# Altium schematic symbol library ESP32-PicoDK.SCHLIB: 34 symbols
Pins are listed as number, name and electrical type; pins without a type are passive.

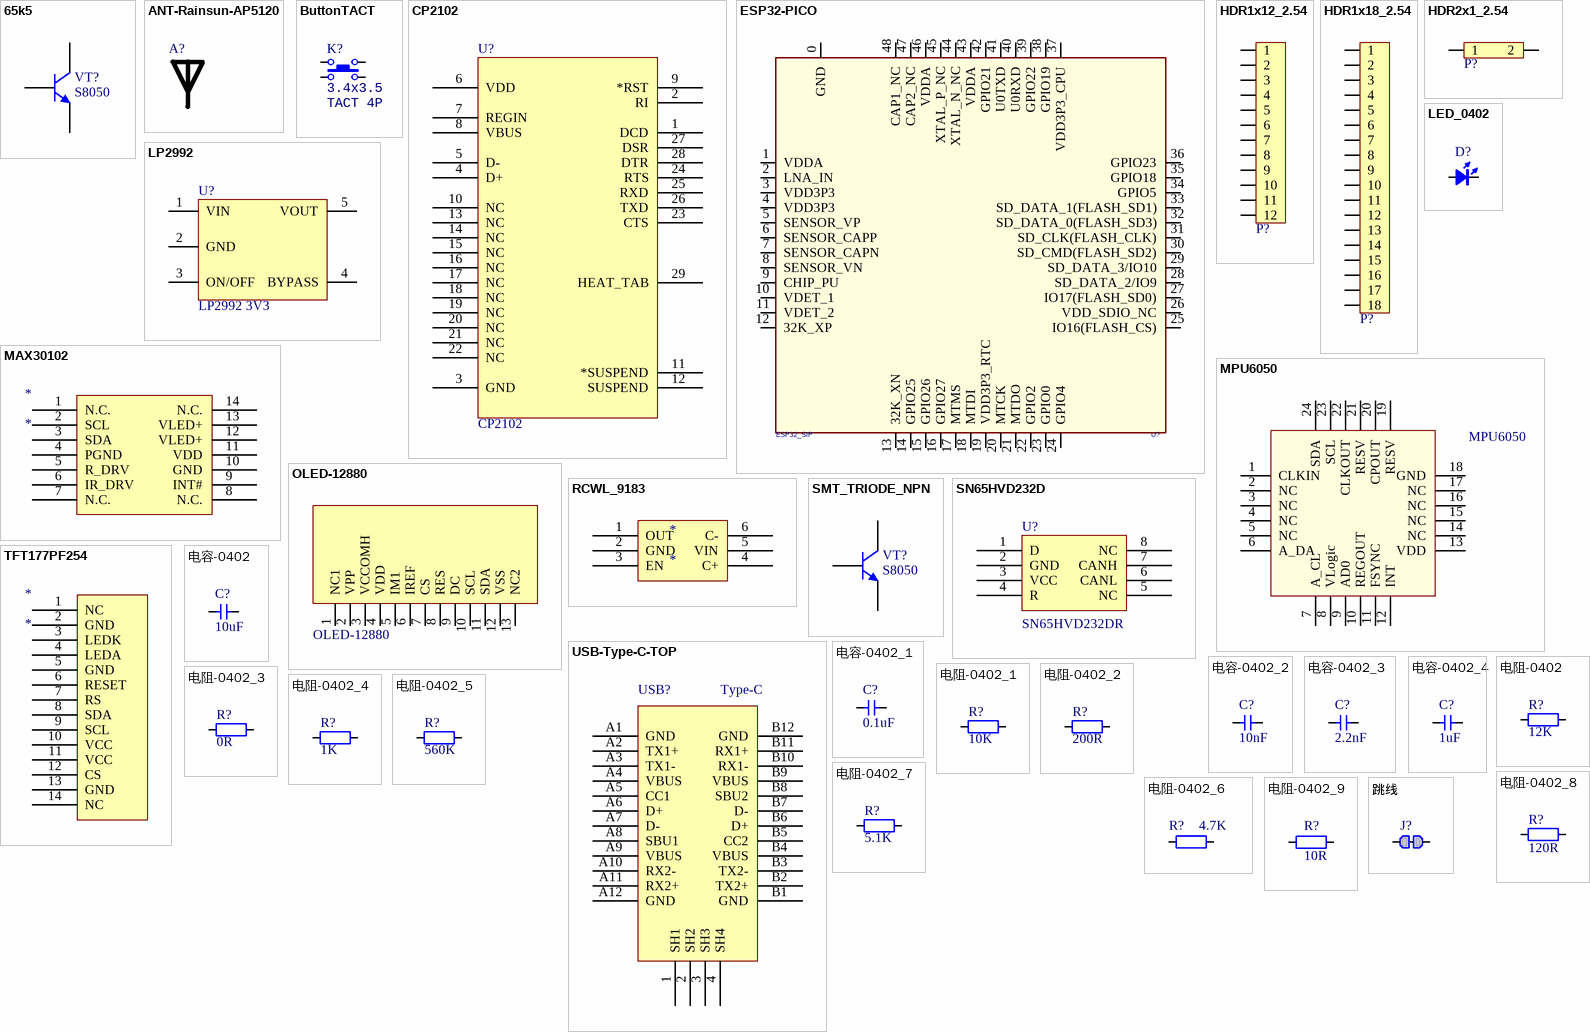
[diagram p0: symbols 65k5 to 跳线]

## 65k5
designator VT?, comment S8050
Surface mount NPN transistor, package SOT-23
footprint SMT_TRIODE_NPN (Surface mount NPN transistor, package SOT-23)
pins: 1 B, 2 E, 3 C

## ANT-Rainsun-AP5120
designator A?, comment RAINSUN  (value not drawn)
footprint ANT-Rainsun-AN5120 (选择焊盘)
pins: 1

## ButtonTACT
designator K?, comment value 3.4x3.5  (hidden comment: TACT 4P)
Button; type: TACT 4P
footprint ButtonTACT_3.5*3.55_90
footprint ButtonTACT_3.4*3.5_90
footprint SW-SMD_4P-L4.2-W3.3-P2.15-LS5.1 - duplicate
pins: 1, 2, 3, 4

## CP2102
designator U?
USB转TTL; PART DESC: SINGLE-CHIP USB TO UART BRIDGE, QFN28, RoHS.; MFG #1: SILICON LABS; PART NUMBER: CP2102; Value: Value; RefDes: RefDes; Type: DEV
footprint QFN-28
pins: 1 DCD, 2 RI, 3 GND, 4 D+, 5 D-, 6 VDD, 7 REGIN, 8 VBUS, 9 *RST, 10 NC, 11 *SUSPEND, 12 SUSPEND, 13 NC, 14 NC, 15 NC, 16 NC, 17 NC, 18 NC, 19 NC, 20 NC, 21 NC, 22 NC, 23 CTS, 24 RTS, 25 RXD, 26 TXD, 27 DSR, 28 DTR, 29 HEAT_TAB

## ESP32-PICO
designator U?, comment ESP32_SIP
footprint QFN-48_7X7
pins: 0 GND (power), 1 VDDA (power), 2 LNA_IN, 3 VDD3P3 (power), 4 VDD3P3 (power), 5 SENSOR_VP, 6 SENSOR_CAPP, 7 SENSOR_CAPN, 8 SENSOR_VN, 9 CHIP_PU, 10 VDET_1, 11 VDET_2, 12 32K_XP, 13 32K_XN, 14 GPIO25, 15 GPIO26, 16 GPIO27, 17 MTMS, 18 MTDI, 19 VDD3P3_RTC (power), 20 MTCK, 21 MTDO, 22 GPIO2, 23 GPIO0, 24 GPIO4, 25 IO16(FLASH_CS), 26 VDD_SDIO_NC, 27 IO17(FLASH_SD0), 28 SD_DATA_2/IO9, 29 SD_DATA_3/IO10, 30 SD_CMD(FLASH_SD2), 31 SD_CLK(FLASH_CLK), 32 SD_DATA_0(FLASH_SD3), 33 SD_DATA_1(FLASH_SD1), 34 GPIO5, 35 GPIO18, 36 GPIO23, 37 VDD3P3_CPU (power), 38 GPIO19, 39 GPIO22, 40 U0RXD (power), 41 U0TXD (power), 42 GPIO21, 43 VDDA (power), 44 XTAL_N_NC, 45 XTAL_P_NC, 46 VDDA (power), 47 CAP2_NC, 48 CAP1_NC

## HDR1x12_2.54
designator P?  (value not drawn)
Header
footprint HDR1X12_2.54_90
footprint HDR1X12_2.54_90F (Footprint not found)
footprint HDR1X12_2.54_180
footprint HDR1X12_2.54_180F (Footprint not found)
footprint HDR1X12_2.54_180H
pins: 1, 2, 3, 4, 5, 6, 7, 8, 9, 10, 11, 12

## HDR1x18_2.54
designator P?  (value not drawn)
Header
footprint HDR1X18_2.54_90 (Footprint not found)
footprint HDR1X18_2.54_90F (Footprint not found)
footprint HDR1X18_2.54_180
footprint HDR1X18_2.54_180F (Footprint not found)
pins: 1, 2, 3, 4, 5, 6, 7, 8, 9, 10, 11, 12, 13, 14, 15, 16, 17, 18

## HDR2x1_2.54
designator P?  (value not drawn)
Header
footprint HDR1X2_2.54_90
footprint HDR1X2_2.54_90F
footprint HDR1X2_2.54_180
footprint HDR1X2_2.54_180F
footprint HDR1X2_2.54_180H
footprint HDR1X2_2.54_180HD
pins: 1, 2

## LED_0402
designator D?, comment color?  (value not drawn)
LED; Type: 0402; Value: color?
footprint LED_0402_RED
footprint LED_0402_BLUE
footprint LED_0402_ORANGE
footprint LED_0402_YELLOW
footprint LED_0402_GREEN
pins: 1 A, 2 K

## LP2992
designator U?, comment LP2992 3V3
LDO
footprint SOT23-5 (SOT23, 3-Leads, Body 3.1x3.0mm (max), Pitch 0.95mm, IPC Medium Density)
pins: 1 VIN, 2 GND, 3 ON/OFF, 4 BYPASS, 5 VOUT

## MAX30102
designator *
pins: 1 N.C., 2 SCL, 3 SDA, 4 PGND, 5 R_DRV, 6 IR_DRV, 7 N.C., 8 N.C., 9 INT#, 10 GND, 11 VDD, 12 VLED+, 13 VLED+, 14 N.C.

## MPU6050
designator U?
六轴传感器
footprint QFN-24 (QFN, 24-Leads, Body 4.1x4.1mm (max), Pitch 0.50mm, IPC Low Density)
pins: 1 CLKIN, 2 NC, 3 NC, 4 NC, 5 NC, 6 A_DA, 7 A_CL, 8 VLogic, 9 AD0, 10 REGOUT, 11 FSYNC, 12 INT, 13 VDD, 14 NC, 15 NC, 16 NC, 17 NC, 18 GND, 19 RESV, 20 CPOUT, 21 RESV, 22 CLKOUT, 23 SCL, 24 SDA

## OLED-12880
designator 1?
footprint OLED-12880
pins: 1 NC1, 2 VPP, 3 VCCOMH, 4 VDD, 5 IM1, 6 IREF, 7 CS, 8 RES, 9 DC, 10 SCL, 11 SDA, 12 VSS, 13 NC2

## RCWL_9183
designator *
pins: 1 OUT, 2 GND, 3 EN, 4 C+, 5 VIN, 6 C-

## SMT_TRIODE_NPN
designator VT?, comment S8050
Surface mount NPN transistor, package SOT-23
footprint SMT_TRIODE_NPN (Surface mount NPN transistor, package SOT-23)
pins: 1 B, 2 E, 3 C

## SN65HVD232D
designator U?  Manufacturer Part Number: SN65HVD232DR  (hidden comment: SN65HVD232D)
Manufacturer: Texas Instruments; Protocol: CAN; Number of Drivers/Receivers: 1/1; Duplex: Half; Data Rate: 1Mbps; Voltage - Supply: 3 V ~ 3.6 V; Supplier 1: Digi-Key; Supplier Part Number 1: 296-26344-2-ND; RoHS: RoHS Compliant; Category: Integrated Circuits (ICs); Stock: 5000; Pricing 1: 2500=0.84375 (USD); Packaging: Tape & Reel (TR); Part Status: Active; Type: Transceiver; Operating Temperature: -40°C ~ 85°C; Mounting Type: Surface Mount; Package / Case: 8-SOIC (0.154", 3.90mm Width); Supplier Device Package: 8-SOIC; ComponentLink1URL: http://www.ti.com/lit/ds/symlink/sn65hvd230.pdf; ComponentLink1Description: http://www.ti.com/lit/ds/symlink/sn65hvd230.pdf; Supplier 2: Digi-Key; Supplier Part Number 2: 296-26344-1-ND; Pricing 2: 1=2.05, 10=1.842, 100=1.4809, 500=1.21668, 1000=1.00811 (USD)
footprint SO-8
pins: 1 D, 2 GND, 3 VCC, 4 R, 5 NC, 6 CANL, 7 CANH, 8 NC

## TFT177PF254
designator *
footprint TFT144PF254
pins: 1 NC, 2 GND, 3 LEDK, 4 LEDA, 5 GND, 6 RESET, 7 RS, 8 SDA, 9 SCL, 10 VCC, 11 VCC, 12 CS, 13 GND, 14 NC

## USB-Type-C-TOP
designator USB?, comment Type-C
footprint Type-C-TOP
pins: 1 SH1, 2 SH2, 3 SH3, 4 SH4, A1 GND, A2 TX1+, A3 TX1-, A4 VBUS, A5 CC1, A6 D+, A7 D-, A8 SBU1, A9 VBUS, A10 RX2-, A11 RX2+, A12 GND, B1 GND, B2 TX2+, B3 TX2-, B4 VBUS, B5 CC2, B6 D+, B7 D-, B8 SBU2, B9 VBUS, B10 RX1-, B11 RX1+, B12 GND

## 电容-0402
designator C?, comment 10uF
Capacitor; Value: 0.1u
footprint CAP_0402
pins: 1, 2

## 电容-0402_1
designator C?, comment 0.1uF
Capacitor; Value: 0.1u
footprint CAP_0402
pins: 1, 2

## 电容-0402_2
designator C?, comment 10nF
Capacitor; Value: 0.1u
footprint CAP_0402
pins: 1, 2

## 电容-0402_3
designator C?, comment 2.2nF
Capacitor; Value: 0.1u
footprint CAP_0402
pins: 1, 2

## 电容-0402_4
designator C?, comment 1uF
Capacitor; Value: 0.1u
footprint CAP_0402
pins: 1, 2

## 电阻-0402
designator R?, comment 12K
Resistor; Value: 22R
footprint RES_0402
pins: 1, 2

## 电阻-0402_1
designator R?, comment 10K
Resistor; Value: 22R
footprint RES_0402
pins: 1, 2

## 电阻-0402_2
designator R?, comment 200R
Resistor; Value: 22R
footprint RES_0402
pins: 1, 2

## 电阻-0402_3
designator R?, comment 0R
Resistor; Value: 22R
footprint RES_0402
pins: 1, 2

## 电阻-0402_4
designator R?, comment 1K
Resistor; Value: 22R
footprint RES_0402
pins: 1, 2

## 电阻-0402_5
designator R?, comment 560K
Resistor; Value: 22R
footprint RES_0402
pins: 1, 2

## 电阻-0402_6
designator R?, comment 4.7K
Resistor; Value: 22R
footprint RES_0402
pins: 1, 2

## 电阻-0402_7
designator R?, comment 5.1K
Resistor; Value: 22R
footprint RES_0402
pins: 1, 2

## 电阻-0402_8
designator R?, comment 120R
Resistor; Value: 22R
footprint RES_0402
pins: 1, 2

## 电阻-0402_9
designator R?, comment 10R
Resistor
footprint 0805
pins: 1, 2

## 跳线
designator J?  (value not drawn)
Resistor; Published: 8-Jun-2000; LatestRevisionDate: 17-Jul-2002; LatestRevisionNote: Re-released for DXP Platform.; PackageReference: AXIAL-0.4; Publisher: Altium Limited; PackageDescription: Axial Device, Thru-Hole; 2 Leads; 0.4 in Pin Spacing
footprint 0402-0R (选择焊盘)
pins: 1, 2